# EAGLE library part LT3060 (library wheat)
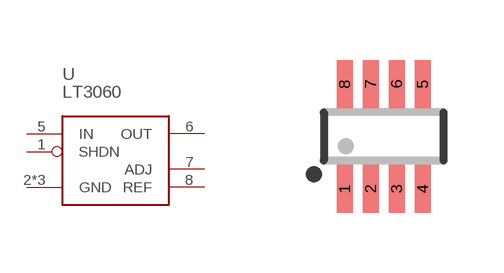
[diagram p229: symbol with the pads of SOT23-8; footprint SOT23-8]

Designator prefix U

## LT3060ETS8  [SOT23-8]
1  SHDN  in
2  GND  pas
3  GND  pas
4  GND  pas
5  IN
6  OUT
7  ADJ
8  REF

## Footprint SOT23-8 (pad centres in mm)
smd 0.4 x 1.2: 1 -0.975,-1.31; 2 -0.325,-1.31; 3 0.325,-1.31; 4 0.975,-1.31; 5 0.975,1.31; 6 0.325,1.31; 7 -0.325,1.31; 8 -0.975,1.31